# Altium schematic symbol library USB.SchLib: 1 symbol
Pins are listed as number, name and electrical type; pins without a type are passive.

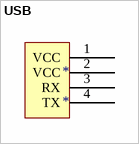
[diagram p0: symbol USB]

## USB
designator *
footprint MICRO-USB
pins: 1 VCC, 2 VCC, 3 RX, 4 TX